# EAGLE library part CON_M2X05 (library akita)
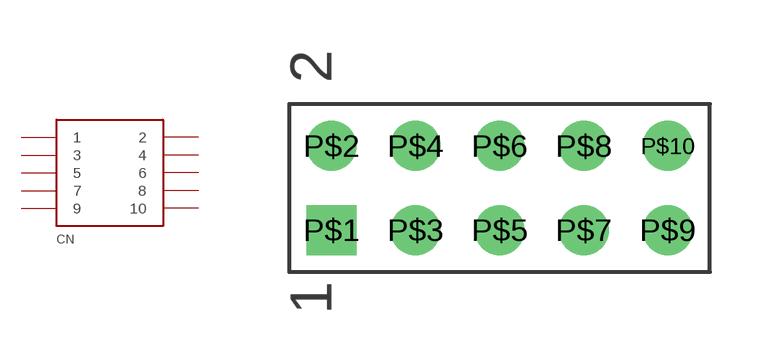
[diagram p121: symbol with the pads of 2X5R; footprint 2X5R]

Designator prefix CN

## CON_M2X05  [2X5R]
P$1  1
P$2  2
P$3  3
P$4  4
P$5  5
P$6  6
P$7  7
P$8  8
P$9  9
P$10  10

## Footprint 2X5R (pad centres in mm)
drill 1 square: P$1 -5.08,-1.27
drill 1: P$2 -5.08,1.27; P$3 -2.54,-1.27; P$4 -2.54,1.27; P$5 0,-1.27; P$6 0,1.27; P$7 2.54,-1.27; P$8 2.54,1.27; P$9 5.08,-1.27; P$10 5.08,1.27